# Altium footprint library CUI_SD-4-B.PcbLib: 1 footprints
Each footprint in its own frame and in the unit in brackets; x right, y up, seen from the top. Pads: shape width x height; smd on the part's side, far side on the other; paste and mask are expansions set on the pad; w line width, h text height; cw(c..) or ccw(c..) is an arc to the next point about the centre after c.
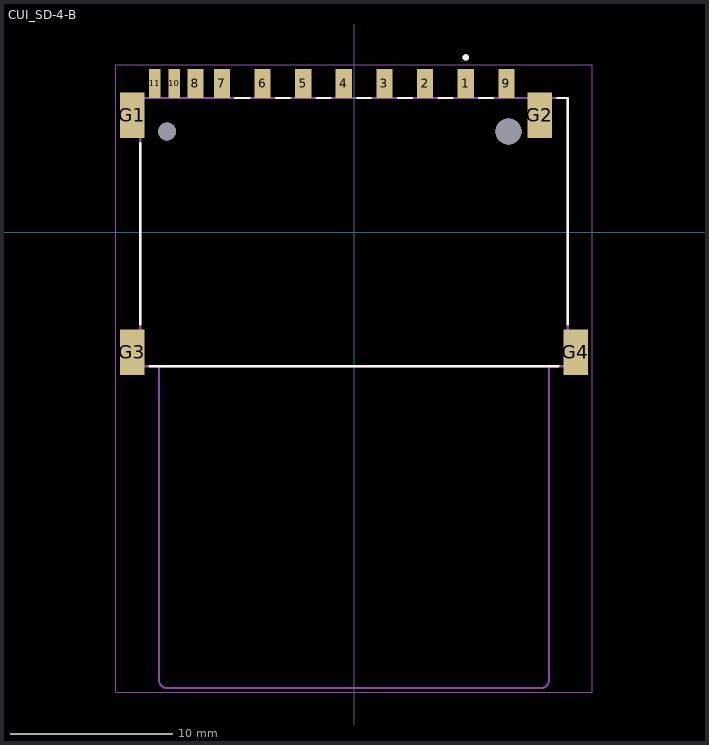
[diagram p0: the footprint, top view; thin cyan lines are the x and y axes]

## CUI_SD-4-B [mm]
height 3.29
pads (17):
  rect 1x1.8 smd: 1(6.875,9.15) 2(4.375,9.15) 3(1.875,9.15) 4(-0.625,9.15) 5(-3.125,9.15) 6(-5.625,9.15) 7(-8.125,9.15) 8(-9.755,9.15) 9(9.375,9.15)
  rect 0.7x1.8 smd: 10(-11.055,9.15) 11(-12.255,9.15)
  rect 1.5x2.8 smd: G1(-13.65,7.2) G2(11.42,7.2) G3(-13.65,-7.4) G4(13.65,-7.4)
  round 1.1 hole 1.1 unplated: ""(-11.5,6.2)
  round 1.6 hole 1.6 unplated: ""(9.5,6.2)
Top Overlay:
  circle w0.2: c6.875,10.75 r0.1
  lines w0.127: -13.15,-5.68 -13.15,5.48 ; -12.58,-8.25 12.58,-8.25 ; -7.305,8.25 -6.445,8.25 ; -4.805,8.25 -3.945,8.25 ; -2.305,8.25 -1.445,8.25 ; 0.195,8.25 1.055,8.25 ; 2.695,8.25 3.555,8.25 ; 5.195,8.25 6.055,8.25 ; 7.695,8.25 8.555,8.25 ; 12.49,8.25 13.15,8.25 13.15,-5.68
Mechanical 13:
  circle w0.2: c6.875,10.75 r0.1
  lines w0.127: -12,-8.25 -12,-27.55 ccw(c-11.5,-27.55) -11.5,-28.05 11.5,-28.05 ccw(c11.5,-27.55) 12,-27.55 12,-8.25 ; -12,-8.25 12,-8.25 ; -12,-8.25 -13.15,-8.25 -13.15,8.25 13.15,8.25 13.15,-8.25 12,-8.25
Mechanical 15:
  lines w0.05: -14.65,-28.3 -14.65,10.3 14.65,10.3 14.65,-28.3 -14.65,-28.3
3D body "Same_Sky_SD-4-B.step": height 3.17, standoff -0.47, extent -13.75,-8.629 13.75,9.271